# Altium footprint library conn_pld.PcbLib: 25 footprints (part 1 of 2)
Each footprint in its own frame and in the unit in brackets; x right, y up, seen from the top. Pads: shape width x height; smd on the part's side, far side on the other; paste and mask are expansions set on the pad; w line width, h text height; cw(c..) or ccw(c..) is an arc to the next point about the centre after c.
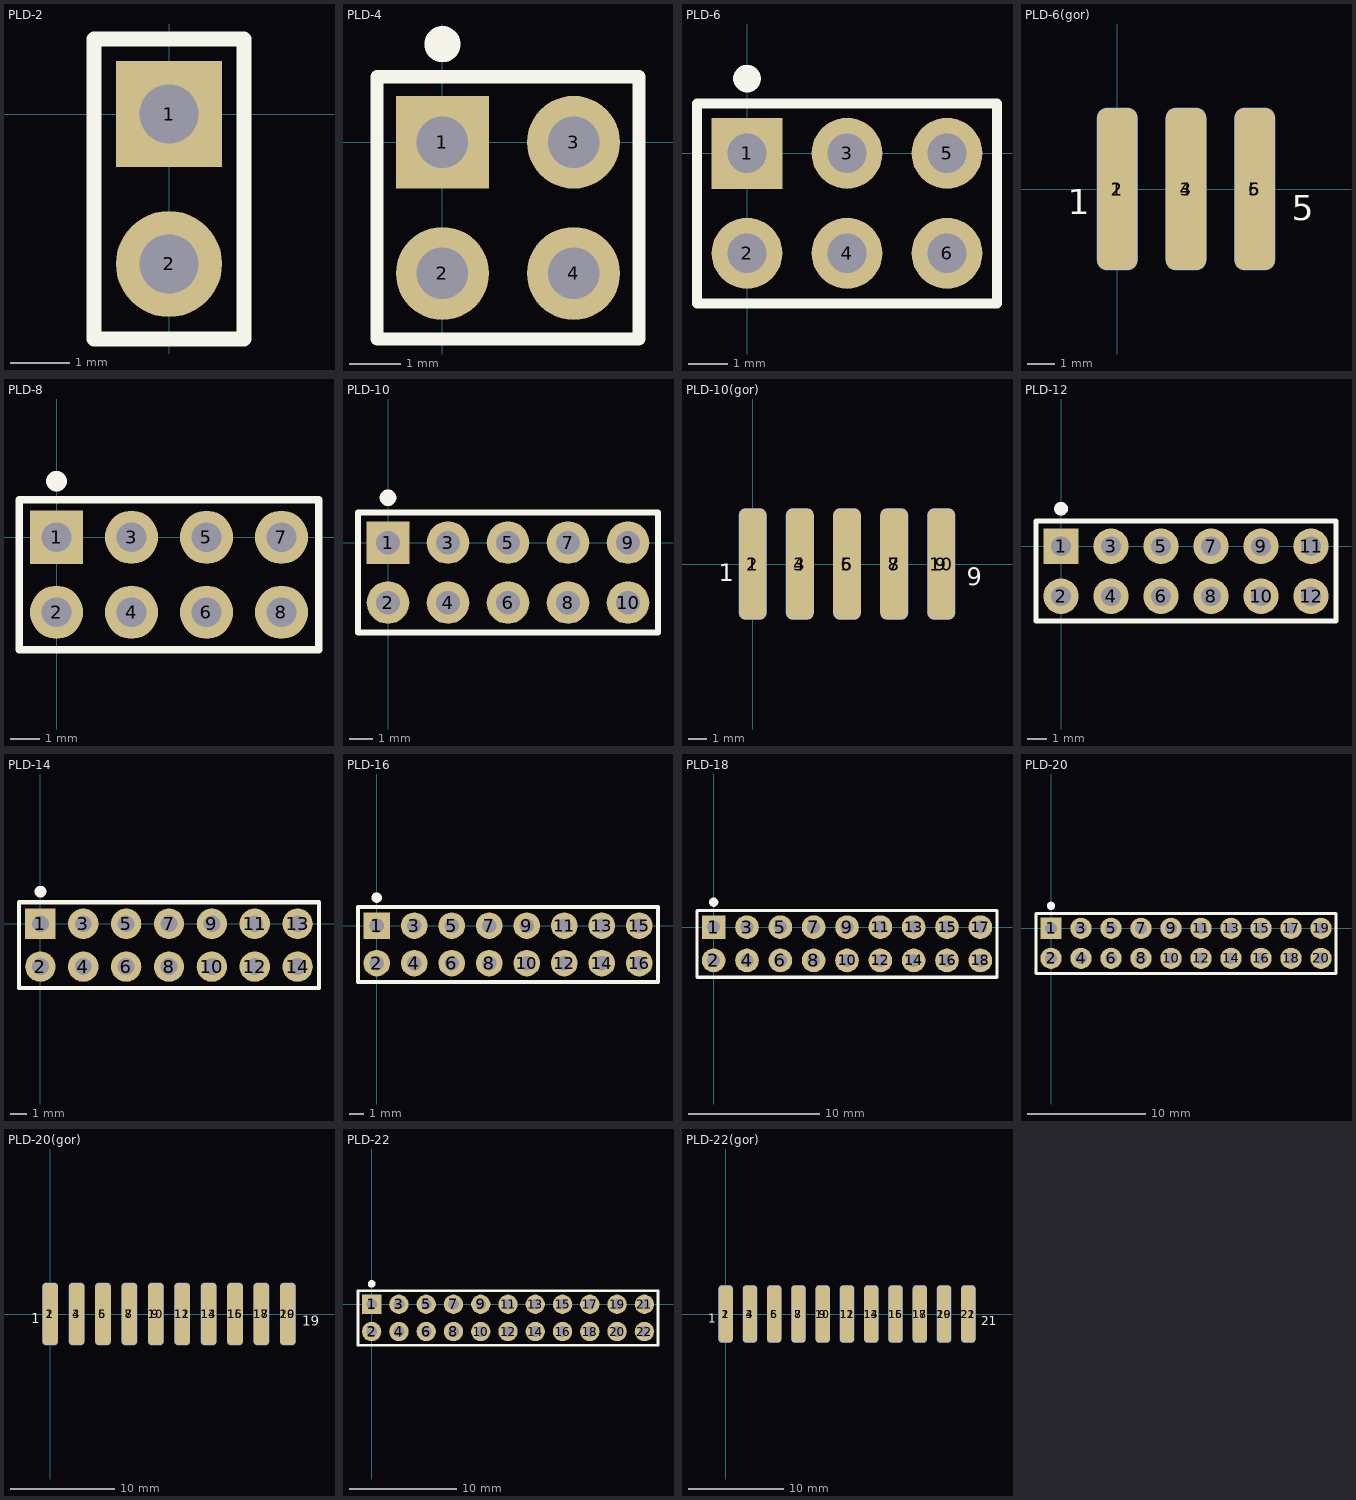
[diagram p0: the footprints below, top view; thin cyan lines are the x and y axes]

## PCBComponent_1 [mm]

## PLD-2 [mm]
pads (2):
  rect 1.8x1.8 hole 1: 1(0,0)
  round 1.8 hole 1: 2(0,-2.54)
Top Overlay:
  lines w0.254: -1.27,-3.81 -1.27,1.27 1.27,1.27 1.27,-3.81 -1.27,-3.81
Mechanical 29:
  lines w0.2: -1.27,-3.81 1.27,-3.81 1.27,1.27 -1.27,1.27 -1.27,-3.81 ; -1.27,-3.81 -1.27,-3.81
  text ".Designator" at 1.727,-0.584 h1
3D body "PLD-2.step": height 8.44, standoff -3, extent -1.27,-3.81 1.27,1.27

## PLD-4 [mm]
pads (4):
  rect 1.8x1.8 hole 1: 1(0,0)
  round 1.8 hole 1: 2(0,-2.54) 3(2.54,0) 4(2.54,-2.54)
Top Overlay:
  circle w0.5: c0,1.9 r0.1
  lines w0.254: -1.27,-3.81 -1.27,1.27 3.81,1.27 3.81,-3.81 -1.27,-3.81
3D body "PLD-2.step": height 8.44, standoff -3, extent -1.27,-3.81 1.27,1.27
3D body "PLD-2.step": height 8.44, standoff -3, extent 1.27,-3.81 3.81,1.27

## PLD-6 [mm]
pads (6):
  rect 1.8x1.8 hole 1: 1(0,0)
  round 1.8 hole 1: 2(0,-2.54) 3(2.54,0) 4(2.54,-2.54) 5(5.08,0) 6(5.08,-2.54)
Top Overlay:
  circle w0.5: c0,1.9 r0.1
  lines w0.254: -1.27,-3.81 6.35,-3.81 6.35,1.27 -1.27,1.27 -1.27,-3.81
3D body "PLD-2.step": height 8.44, standoff -3, extent 3.81,-3.81 6.35,1.27
3D body "PLD-2.step": height 8.44, standoff -3, extent 1.27,-3.81 3.81,1.27
3D body "PLD-2.step": height 8.44, standoff -3, extent -1.27,-3.81 1.27,1.27

## PLD-6(gor) [mm]
pads (6):
  rrect50% 1.5x6 smd: 1(0,0) 3(2.54,0) 5(5.08,0)
  rrect50% 1.5x6 smd far side: 2(0,0) 4(2.54,0) 6(5.08,0)
Top Overlay:
  text "5" at 6.452,-1.473 h1.6
  text "1" at -1.829,-1.245 h1.6
Bottom Overlay:
  text "6" at 7.087,-1.473 h1.6
  text "2" at -1.168,-1.27 h1.6
3D body "PLD-2.step": height 1.69, standoff -3.39, extent -1.27,-0.16 1.27,11.28
3D body "PLD-2.step": height 1.69, standoff -3.39, extent 1.27,-0.16 3.81,11.28
3D body "PLD-2.step": height 1.69, standoff -3.39, extent 3.81,-0.16 6.35,11.28

## PLD-8 [mm]
pads (8):
  rect 1.8x1.8 hole 1: 1(0,0)
  round 1.8 hole 1: 2(0,-2.54) 3(2.54,0) 4(2.54,-2.54) 5(5.08,0) 6(5.08,-2.54) 7(7.62,0) 8(7.62,-2.54)
Top Overlay:
  circle w0.5: c0,1.9 r0.1
  lines w0.254: -1.27,-3.81 -1.27,1.27 8.89,1.27 8.89,-3.81 -1.27,-3.81
3D body "PLD-2.step": height 8.44, standoff -3, extent -1.27,-3.81 1.27,1.27
3D body "PLD-2.step": height 8.44, standoff -3, extent 1.27,-3.81 3.81,1.27
3D body "PLD-2.step": height 8.44, standoff -3, extent 3.81,-3.81 6.35,1.27
3D body "PLD-2.step": height 8.44, standoff -3, extent 6.35,-3.81 8.89,1.27

## PLD-10 [mm]
pads (10):
  rect 1.8x1.8 hole 1: 1(0,0)
  round 1.8 hole 1: 2(0,-2.54) 3(2.54,0) 4(2.54,-2.54) 5(5.08,0) 6(5.08,-2.54) 7(7.62,0) 8(7.62,-2.54) 9(10.16,0) 10(10.16,-2.54)
Top Overlay:
  circle w0.5: c0,1.9 r0.1
  lines w0.254: -1.27,-3.81 -1.27,1.27 11.43,1.27 11.43,-3.81 -1.27,-3.81
3D body "PLD-2.step": height 8.44, standoff -3, extent 8.89,-3.81 11.43,1.27
3D body "PLD-2.step": height 8.44, standoff -3, extent -1.27,-3.81 1.27,1.27
3D body "PLD-2.step": height 8.44, standoff -3, extent 1.27,-3.81 3.81,1.27
3D body "PLD-2.step": height 8.44, standoff -3, extent 3.81,-3.81 6.35,1.27
3D body "PLD-2.step": height 8.44, standoff -3, extent 6.35,-3.81 8.89,1.27

## PLD-10(gor) [mm]
pads (10):
  rrect50% 1.5x6 smd: 1(0,0) 3(2.54,0) 5(5.08,0) 7(7.62,0) 9(10.16,0)
  rrect50% 1.5x6 smd far side: 2(0,0) 4(2.54,0) 6(5.08,0) 8(7.62,0) 10(10.16,0)
Top Overlay:
  text "9" at 11.532,-1.473 h1.6
  text "1" at -1.829,-1.245 h1.6
Bottom Overlay:
  text "10" at 13.081,-1.473 h1.6
  text "2" at -1.168,-1.27 h1.6
3D body "PLD-2.step": height 1.69, standoff -3.39, extent 8.89,-0.16 11.43,11.28
3D body "PLD-2.step": height 1.69, standoff -3.39, extent -1.27,-0.16 1.27,11.28
3D body "PLD-2.step": height 1.69, standoff -3.39, extent 1.27,-0.16 3.81,11.28
3D body "PLD-2.step": height 1.69, standoff -3.39, extent 3.81,-0.16 6.35,11.28
3D body "PLD-2.step": height 1.69, standoff -3.39, extent 6.35,-0.16 8.89,11.28

## PLD-12 [mm]
pads (12):
  rect 1.8x1.8 hole 1: 1(0,0)
  round 1.8 hole 1: 2(0,-2.54) 3(2.54,0) 4(2.54,-2.54) 5(5.08,0) 6(5.08,-2.54) 7(7.62,0) 8(7.62,-2.54) 9(10.16,0) 10(10.16,-2.54) 11(12.7,0) 12(12.7,-2.54)
Top Overlay:
  circle w0.5: c0,1.9 r0.1
  lines w0.254: -1.27,-3.81 -1.27,1.27 13.97,1.27 13.97,-3.81 -1.27,-3.81
3D body "PLD-2.step": height 8.44, standoff -3, extent 11.43,-3.81 13.97,1.27
3D body "PLD-2.step": height 8.44, standoff -3, extent 8.89,-3.81 11.43,1.27
3D body "PLD-2.step": height 8.44, standoff -3, extent -1.27,-3.81 1.27,1.27
3D body "PLD-2.step": height 8.44, standoff -3, extent 1.27,-3.81 3.81,1.27
3D body "PLD-2.step": height 8.44, standoff -3, extent 3.81,-3.81 6.35,1.27
3D body "PLD-2.step": height 8.44, standoff -3, extent 6.35,-3.81 8.89,1.27

## PLD-14 [mm]
pads (14):
  rect 1.8x1.8 hole 1: 1(0,0)
  round 1.8 hole 1: 2(0,-2.54) 3(2.54,0) 4(2.54,-2.54) 5(5.08,0) 6(5.08,-2.54) 7(7.62,0) 8(7.62,-2.54) 9(10.16,0) 10(10.16,-2.54) 11(12.7,0) 12(12.7,-2.54) 13(15.24,0) 14(15.24,-2.54)
Top Overlay:
  circle w0.5: c0,1.9 r0.1
  lines w0.254: -1.27,-3.81 -1.27,1.27 16.51,1.27 16.51,-3.81 -1.27,-3.81
3D body "PLD-2.step": height 8.44, standoff -3, extent 11.43,-3.81 13.97,1.27
3D body "PLD-2.step": height 8.44, standoff -3, extent 8.89,-3.81 11.43,1.27
3D body "PLD-2.step": height 8.44, standoff -3, extent -1.27,-3.81 1.27,1.27
3D body "PLD-2.step": height 8.44, standoff -3, extent 1.27,-3.81 3.81,1.27
3D body "PLD-2.step": height 8.44, standoff -3, extent 3.81,-3.81 6.35,1.27
3D body "PLD-2.step": height 8.44, standoff -3, extent 6.35,-3.81 8.89,1.27
3D body "PLD-2.step": height 8.44, standoff -3, extent 13.97,-3.81 16.51,1.27

## PLD-16 [mm]
pads (16):
  rect 1.8x1.8 hole 1: 1(0,0)
  round 1.8 hole 1: 2(0,-2.54) 3(2.54,0) 4(2.54,-2.54) 5(5.08,0) 6(5.08,-2.54) 7(7.62,0) 8(7.62,-2.54) 9(10.16,0) 10(10.16,-2.54) 11(12.7,0) 12(12.7,-2.54) 13(15.24,0) 14(15.24,-2.54) 15(17.78,0) 16(17.78,-2.54)
Top Overlay:
  circle w0.5: c0,1.9 r0.1
  lines w0.254: -1.27,-3.81 19.05,-3.81 19.05,1.27 -1.27,1.27 -1.27,-3.81
3D body "PLD-2.step": height 8.44, standoff -3, extent 16.51,-3.81 19.05,1.27
3D body "PLD-2.step": height 8.44, standoff -3, extent 13.97,-3.81 16.51,1.27
3D body "PLD-2.step": height 8.44, standoff -3, extent 6.35,-3.81 8.89,1.27
3D body "PLD-2.step": height 8.44, standoff -3, extent 3.81,-3.81 6.35,1.27
3D body "PLD-2.step": height 8.44, standoff -3, extent 1.27,-3.81 3.81,1.27
3D body "PLD-2.step": height 8.44, standoff -3, extent -1.27,-3.81 1.27,1.27
3D body "PLD-2.step": height 8.44, standoff -3, extent 8.89,-3.81 11.43,1.27
3D body "PLD-2.step": height 8.44, standoff -3, extent 11.43,-3.81 13.97,1.27

## PLD-18 [mm]
pads (18):
  rect 1.8x1.8 hole 1: 1(0,0)
  round 1.8 hole 1: 2(0,-2.54) 3(2.54,0) 4(2.54,-2.54) 5(5.08,0) 6(5.08,-2.54) 7(7.62,0) 8(7.62,-2.54) 9(10.16,0) 10(10.16,-2.54) 11(12.7,0) 12(12.7,-2.54) 13(15.24,0) 14(15.24,-2.54) 15(17.78,0) 16(17.78,-2.54) 17(20.32,0) 18(20.32,-2.54)
Top Overlay:
  circle w0.5: c0,1.9 r0.1
  lines w0.254: -1.27,-3.81 -1.27,1.27 21.59,1.27 21.59,-3.81 -1.27,-3.81
3D body "PLD-2.step": height 8.44, standoff -3, extent 11.43,-3.81 13.97,1.27
3D body "PLD-2.step": height 8.44, standoff -3, extent 8.89,-3.81 11.43,1.27
3D body "PLD-2.step": height 8.44, standoff -3, extent -1.27,-3.81 1.27,1.27
3D body "PLD-2.step": height 8.44, standoff -3, extent 1.27,-3.81 3.81,1.27
3D body "PLD-2.step": height 8.44, standoff -3, extent 3.81,-3.81 6.35,1.27
3D body "PLD-2.step": height 8.44, standoff -3, extent 6.35,-3.81 8.89,1.27
3D body "PLD-2.step": height 8.44, standoff -3, extent 13.97,-3.81 16.51,1.27
3D body "PLD-2.step": height 8.44, standoff -3, extent 16.51,-3.81 19.05,1.27
3D body "PLD-2.step": height 8.44, standoff -3, extent 19.05,-3.81 21.59,1.27

## PLD-20 [mm]
pads (20):
  rect 1.8x1.8 hole 1: 1(0,0)
  round 1.8 hole 1: 2(0,-2.54) 3(2.54,0) 4(2.54,-2.54) 5(5.08,0) 6(5.08,-2.54) 7(7.62,0) 8(7.62,-2.54) 9(10.16,0) 10(10.16,-2.54) 11(12.7,0) 12(12.7,-2.54) 13(15.24,0) 14(15.24,-2.54) 15(17.78,0) 16(17.78,-2.54) 17(20.32,0) 18(20.32,-2.54) 19(22.86,0) 20(22.86,-2.54)
Top Overlay:
  circle w0.5: c0,1.9 r0.1
  lines w0.254: -1.27,-3.81 24.13,-3.81 24.13,1.27 -1.27,1.27 -1.27,-3.81
3D body "PLD-2.step": height 8.44, standoff -3, extent 21.59,-3.81 24.13,1.27
3D body "PLD-2.step": height 8.44, standoff -3, extent 19.05,-3.81 21.59,1.27
3D body "PLD-2.step": height 8.44, standoff -3, extent 16.51,-3.81 19.05,1.27
3D body "PLD-2.step": height 8.44, standoff -3, extent 13.97,-3.81 16.51,1.27
3D body "PLD-2.step": height 8.44, standoff -3, extent 6.35,-3.81 8.89,1.27
3D body "PLD-2.step": height 8.44, standoff -3, extent 3.81,-3.81 6.35,1.27
3D body "PLD-2.step": height 8.44, standoff -3, extent 1.27,-3.81 3.81,1.27
3D body "PLD-2.step": height 8.44, standoff -3, extent -1.27,-3.81 1.27,1.27
3D body "PLD-2.step": height 8.44, standoff -3, extent 8.89,-3.81 11.43,1.27
3D body "PLD-2.step": height 8.44, standoff -3, extent 11.43,-3.81 13.97,1.27

## PLD-20(gor) [mm]
pads (20):
  rrect50% 1.5x6 smd: 1(0,0) 3(2.54,0) 5(5.08,0) 7(7.62,0) 9(10.16,0) 11(12.7,0) 13(15.24,0) 15(17.78,0) 17(20.32,0) 19(22.86,0)
  rrect50% 1.5x6 smd far side: 2(0,0) 4(2.54,0) 6(5.08,0) 8(7.62,0) 10(10.16,0) 12(12.7,0) 14(15.24,0) 16(17.78,0) 18(20.32,0) 20(22.86,0)
Top Overlay:
  text "19" at 24.232,-1.473 h1.6
  text "1" at -1.829,-1.245 h1.6
Bottom Overlay:
  text "20" at 25.781,-1.473 h1.6
  text "2" at -1.168,-1.27 h1.6
3D body "PLD-2.step": height 1.69, standoff -3.39, extent 11.43,-0.16 13.97,11.28
3D body "PLD-2.step": height 1.69, standoff -3.39, extent 8.89,-0.16 11.43,11.28
3D body "PLD-2.step": height 1.69, standoff -3.39, extent -1.27,-0.16 1.27,11.28
3D body "PLD-2.step": height 1.69, standoff -3.39, extent 1.27,-0.16 3.81,11.28
3D body "PLD-2.step": height 1.69, standoff -3.39, extent 3.81,-0.16 6.35,11.28
3D body "PLD-2.step": height 1.69, standoff -3.39, extent 6.35,-0.16 8.89,11.28
3D body "PLD-2.step": height 1.69, standoff -3.39, extent 13.97,-0.16 16.51,11.28
3D body "PLD-2.step": height 1.69, standoff -3.39, extent 16.51,-0.16 19.05,11.28
3D body "PLD-2.step": height 1.69, standoff -3.39, extent 19.05,-0.16 21.59,11.28
3D body "PLD-2.step": height 1.69, standoff -3.39, extent 21.59,-0.16 24.13,11.28

## PLD-22 [mm]
pads (22):
  rect 1.8x1.8 hole 1: 1(0,0)
  round 1.8 hole 1: 2(0,-2.54) 3(2.54,0) 4(2.54,-2.54) 5(5.08,0) 6(5.08,-2.54) 7(7.62,0) 8(7.62,-2.54) 9(10.16,0) 10(10.16,-2.54) 11(12.7,0) 12(12.7,-2.54) 13(15.24,0) 14(15.24,-2.54) 15(17.78,0) 16(17.78,-2.54) 17(20.32,0) 18(20.32,-2.54) 19(22.86,0) 20(22.86,-2.54) 21(25.4,0) 22(25.4,-2.54)
Top Overlay:
  circle w0.5: c0,1.9 r0.1
  lines w0.254: -1.27,-3.81 26.67,-3.81 26.67,1.27 -1.27,1.27 -1.27,-3.81
3D body "PLD-2.step": height 8.44, standoff -3, extent 24.13,-3.81 26.67,1.27
3D body "PLD-2.step": height 8.44, standoff -3, extent 21.59,-3.81 24.13,1.27
3D body "PLD-2.step": height 8.44, standoff -3, extent 19.05,-3.81 21.59,1.27
3D body "PLD-2.step": height 8.44, standoff -3, extent 16.51,-3.81 19.05,1.27
3D body "PLD-2.step": height 8.44, standoff -3, extent 13.97,-3.81 16.51,1.27
3D body "PLD-2.step": height 8.44, standoff -3, extent 6.35,-3.81 8.89,1.27
3D body "PLD-2.step": height 8.44, standoff -3, extent 3.81,-3.81 6.35,1.27
3D body "PLD-2.step": height 8.44, standoff -3, extent 1.27,-3.81 3.81,1.27
3D body "PLD-2.step": height 8.44, standoff -3, extent -1.27,-3.81 1.27,1.27
3D body "PLD-2.step": height 8.44, standoff -3, extent 8.89,-3.81 11.43,1.27
3D body "PLD-2.step": height 8.44, standoff -3, extent 11.43,-3.81 13.97,1.27

## PLD-22(gor) [mm]
pads (22):
  rrect50% 1.5x6 smd: 1(0,0) 3(2.54,0) 5(5.08,0) 7(7.62,0) 9(10.16,0) 11(12.7,0) 13(15.24,0) 15(17.78,0) 17(20.32,0) 19(22.86,0) 21(25.4,0)
  rrect50% 1.5x6 smd far side: 2(0,0) 4(2.54,0) 6(5.08,0) 8(7.62,0) 10(10.16,0) 12(12.7,0) 14(15.24,0) 16(17.78,0) 18(20.32,0) 20(22.86,0) 22(25.4,0)
Top Overlay:
  text "21" at 26.772,-1.473 h1.6
  text "1" at -1.829,-1.245 h1.6
Bottom Overlay:
  text "22" at 28.321,-1.473 h1.6
  text "2" at -1.168,-1.27 h1.6
3D body "PLD-2.step": height 1.69, standoff -3.39, extent 24.13,-0.16 26.67,11.28
3D body "PLD-2.step": height 1.69, standoff -3.39, extent 11.43,-0.16 13.97,11.28
3D body "PLD-2.step": height 1.69, standoff -3.39, extent 8.89,-0.16 11.43,11.28
3D body "PLD-2.step": height 1.69, standoff -3.39, extent -1.27,-0.16 1.27,11.28
3D body "PLD-2.step": height 1.69, standoff -3.39, extent 1.27,-0.16 3.81,11.28
3D body "PLD-2.step": height 1.69, standoff -3.39, extent 3.81,-0.16 6.35,11.28
3D body "PLD-2.step": height 1.69, standoff -3.39, extent 6.35,-0.16 8.89,11.28
3D body "PLD-2.step": height 1.69, standoff -3.39, extent 13.97,-0.16 16.51,11.28
3D body "PLD-2.step": height 1.69, standoff -3.39, extent 16.51,-0.16 19.05,11.28
3D body "PLD-2.step": height 1.69, standoff -3.39, extent 19.05,-0.16 21.59,11.28
3D body "PLD-2.step": height 1.69, standoff -3.39, extent 21.59,-0.16 24.13,11.28